# Altium integrated library Lattice FPGA XP2.IntLib: 160 symbols (part 23 of 35)
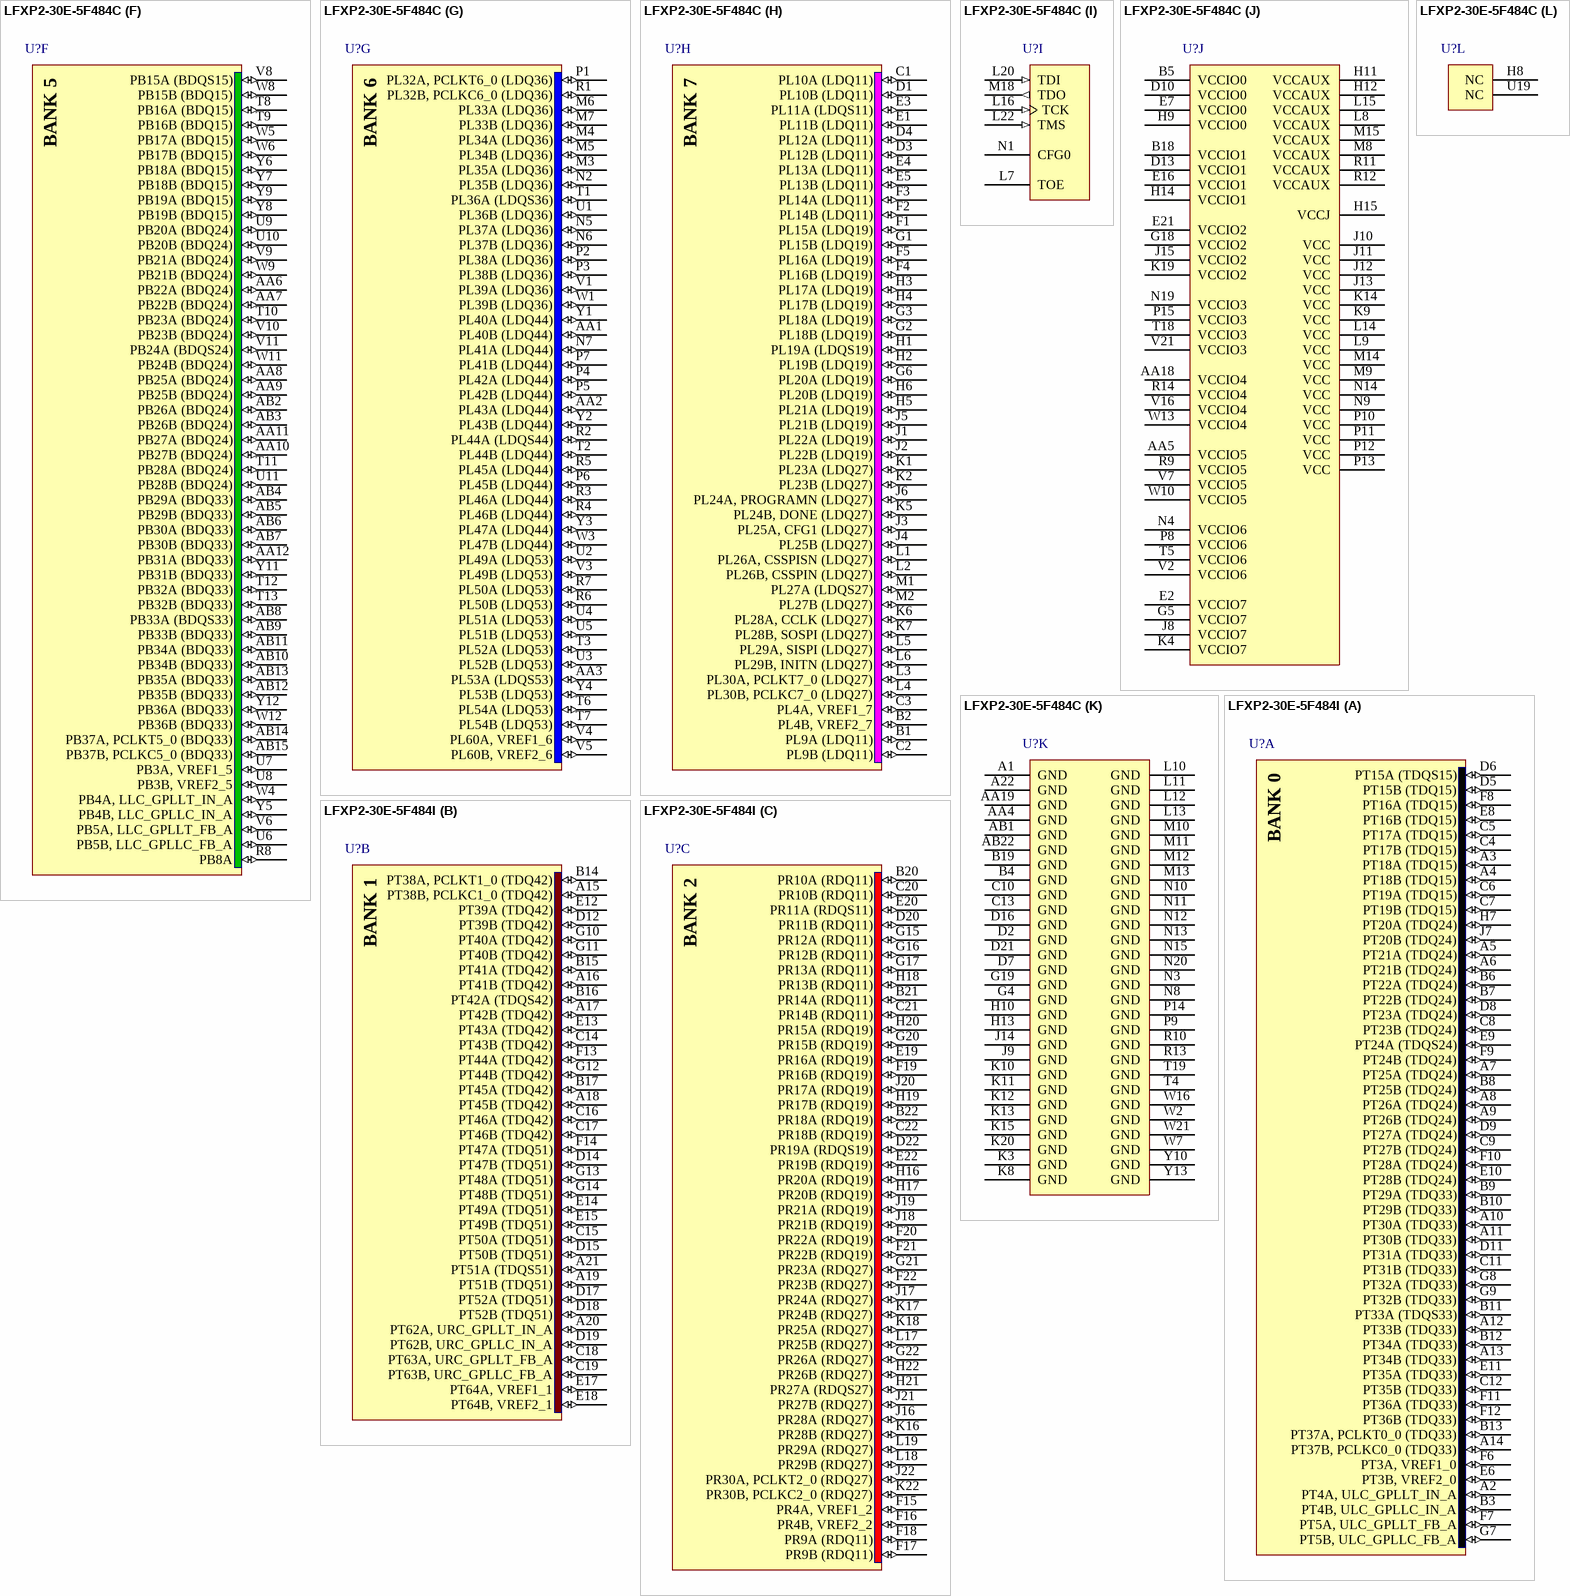
[diagram p284: symbols LFXP2-30E-5F484C to LFXP2-30E-5F484I]

## LFXP2-30E-5F484C
designator U?
XP2, 1.2V FPGA, 363 I/Os, 29K LUTs, 484-Pin fpBGA, Speed Grade 5, Commercial Grade; DatasheetVersion: ver01.8, Jun-2008; PackageVersion: ver02.8, Jul-2011; PackageReference: fpBGA484; PackageDescription: 484-Ball Fine Pitch Ball Grid Array (fpBGA484); Code_IPC: BGA100P22X22-484; ComponentLink1Description: Manufacturer URL; ComponentLink1URL: http://www.latticesemi.com/; ComponentLink2Description: Datasheet; ComponentLink2URL: http://www.latticesemi.com/documents/DS1009.pdf; ComponentLink3Description: Package Specification; ComponentLink3URL: http://www.latticesemi.com/lit/docs/package/pkg.pdf
footprint fpBGA484 (BGA, 484-Leads, Body 23x23mm, Pitch 1mm)
part A pins: A2 PT4A, ULC_GPLLT_IN_A (io), A3 PT18A (TDQ15) (io), A4 PT18B (TDQ15) (io), A5 PT21A (TDQ24) (io), A6 PT21B (TDQ24) (io), A7 PT25A (TDQ24) (io), A8 PT26A (TDQ24) (io), A9 PT26B (TDQ24) (io), A10 PT30A (TDQ33) (io), A11 PT30B (TDQ33) (io), A12 PT33B (TDQ33) (io), A13 PT34B (TDQ33) (io), A14 PT37B, PCLKC0_0 (TDQ33) (io), B3 PT4B, ULC_GPLLC_IN_A (io), B6 PT22A (TDQ24) (io), B7 PT22B (TDQ24) (io), B8 PT25B (TDQ24) (io), B9 PT29A (TDQ33) (io), B10 PT29B (TDQ33) (io), B11 PT33A (TDQS33) (io), B12 PT34A (TDQ33) (io), B13 PT37A, PCLKT0_0 (TDQ33) (io), C4 PT17B (TDQ15) (io), C5 PT17A (TDQ15) (io), C6 PT19A (TDQ15) (io), C7 PT19B (TDQ15) (io), C8 PT23B (TDQ24) (io), C9 PT27B (TDQ24) (io), C11 PT31B (TDQ33) (io), C12 PT35B (TDQ33) (io), D5 PT15B (TDQ15) (io), D6 PT15A (TDQS15) (io), D8 PT23A (TDQ24) (io), D9 PT27A (TDQ24) (io), D11 PT31A (TDQ33) (io), E6 PT3B, VREF2_0 (io), E8 PT16B (TDQ15) (io), E9 PT24A (TDQS24) (io), E10 PT28B (TDQ24) (io), E11 PT35A (TDQ33) (io), F6 PT3A, VREF1_0 (io), F7 PT5A, ULC_GPLLT_FB_A (io), F8 PT16A (TDQ15) (io), F9 PT24B (TDQ24) (io), F10 PT28A (TDQ24) (io), F11 PT36A (TDQ33) (io), F12 PT36B (TDQ33) (io), G7 PT5B, ULC_GPLLC_FB_A (io), G8 PT32A (TDQ33) (io), G9 PT32B (TDQ33) (io), H7 PT20A (TDQ24) (io), J7 PT20B (TDQ24) (io)
part B pins: A15 PT38B, PCLKC1_0 (TDQ42) (io), A16 PT41B (TDQ42) (io), A17 PT42B (TDQ42) (io), A18 PT45B (TDQ42) (io), A19 PT51B (TDQ51) (io), A20 PT62A, URC_GPLLT_IN_A (io), A21 PT51A (TDQS51) (io), B14 PT38A, PCLKT1_0 (TDQ42) (io), B15 PT41A (TDQ42) (io), B16 PT42A (TDQS42) (io), B17 PT45A (TDQ42) (io), C14 PT43B (TDQ42) (io), C15 PT50A (TDQ51) (io), C16 PT46A (TDQ42) (io), C17 PT46B (TDQ42) (io), C18 PT63A, URC_GPLLT_FB_A (io), C19 PT63B, URC_GPLLC_FB_A (io), D12 PT39B (TDQ42) (io), D14 PT47B (TDQ51) (io), D15 PT50B (TDQ51) (io), D17 PT52A (TDQ51) (io), D18 PT52B (TDQ51) (io), D19 PT62B, URC_GPLLC_IN_A (io), E12 PT39A (TDQ42) (io), E13 PT43A (TDQ42) (io), E14 PT49A (TDQ51) (io), E15 PT49B (TDQ51) (io), E17 PT64A, VREF1_1 (io), E18 PT64B, VREF2_1 (io), F13 PT44A (TDQ42) (io), F14 PT47A (TDQ51) (io), G10 PT40A (TDQ42) (io), G11 PT40B (TDQ42) (io), G12 PT44B (TDQ42) (io), G13 PT48A (TDQ51) (io), G14 PT48B (TDQ51) (io)
part C pins: B20 PR10A (RDQ11) (io), B21 PR14A (RDQ11) (io), B22 PR18A (RDQ19) (io), C20 PR10B (RDQ11) (io), C21 PR14B (RDQ11) (io), C22 PR18B (RDQ19) (io), D20 PR11B (RDQ11) (io), D22 PR19A (RDQS19) (io), E19 PR16A (RDQ19) (io), E20 PR11A (RDQS11) (io), E22 PR19B (RDQ19) (io), F15 PR4A, VREF1_2 (io), F16 PR4B, VREF2_2 (io), F17 PR9B (RDQ11) (io), F18 PR9A (RDQ11) (io), F19 PR16B (RDQ19) (io), F20 PR22A (RDQ19) (io), F21 PR22B (RDQ19) (io), F22 PR23B (RDQ27) (io), G15 PR12A (RDQ11) (io), G16 PR12B (RDQ11) (io), G17 PR13A (RDQ11) (io), G20 PR15B (RDQ19) (io), G21 PR23A (RDQ27) (io), G22 PR26A (RDQ27) (io), H16 PR20A (RDQ19) (io), H17 PR20B (RDQ19) (io), H18 PR13B (RDQ11) (io), H19 PR17B (RDQ19) (io), H20 PR15A (RDQ19) (io), H21 PR27A (RDQS27) (io), H22 PR26B (RDQ27) (io), J16 PR28A (RDQ27) (io), J17 PR24A (RDQ27) (io), J18 PR21B (RDQ19) (io), J19 PR21A (RDQ19) (io), J20 PR17A (RDQ19) (io), J21 PR27B (RDQ27) (io), J22 PR30A, PCLKT2_0 (RDQ27) (io), K16 PR28B (RDQ27) (io), K17 PR24B (RDQ27) (io), K18 PR25A (RDQ27) (io), K22 PR30B, PCLKC2_0 (RDQ27) (io), L17 PR25B (RDQ27) (io), L18 PR29B (RDQ27) (io), L19 PR29A (RDQ27) (io)
part D pins: K21 PR32A, PCLKT3_0 (RDQ36) (io), L21 PR32B, PCLKC3_0 (RDQ36) (io), M16 PR34B (RDQ36) (io), M17 PR34A (RDQ36) (io), M19 PR33A (RDQ36) (io), M20 PR33B (RDQ36) (io), M21 PR35A (RDQ36) (io), M22 PR36A (RDQS36) (io), N16 PR41B (RDQ44) (io), N17 PR41A (RDQ44) (io), N18 PR37B (RDQ36) (io), N21 PR35B (RDQ36) (io), N22 PR36B (RDQ36) (io), P16 PR45A (RDQ44) (io), P17 PR45B (RDQ44) (io), P18 PR37A (RDQ36) (io), P19 PR42A (RDQ44) (io), P20 PR38B (RDQ36) (io), P21 PR38A (RDQ36) (io), P22 PR39A (RDQ36) (io), R16 PR50A (RDQ53) (io), R17 PR46B (RDQ44) (io), R18 PR46A (RDQ44) (io), R19 PR42B (RDQ44) (io), R20 PR40B (RDQ44) (io), R21 PR40A (RDQ44) (io), R22 PR39B (RDQ36) (io), T17 PR50B (RDQ53) (io), T20 PR43B (RDQ44) (io), T21 PR43A (RDQ44) (io), T22 PR44A (RDQS44) (io), U17 PR54A (RDQ53) (io), U18 PR54B (RDQ53) (io), U20 PR49A (RDQ53) (io), U21 PR47A (RDQ44) (io), U22 PR44B (RDQ44) (io), V17 PR60A, VREF1_3 (io), V18 PR60B, VREF2_3 (io), V19 PR53B (RDQ53) (io), V20 PR49B (RDQ53) (io), V22 PR47B (RDQ44) (io), W19 PR53A (RDQS53) (io), W20 PR52B (RDQ53) (io), W22 PR52A (RDQ53) (io), Y19 PR51B (RDQ53) (io), Y20 PR51A (RDQ53) (io)
part E pins: AA13 PB39B (BDQ42) (io), AA14 PB42A (BDQS42) (io), AA15 PB42B (BDQ42) (io), AA16 PB45A (BDQ42) (io), AA17 PB45B (BDQ42) (io), AA20 PB46B (BDQ42) (io), AA21 PB49B (BDQ51) (io), AA22 PB49A (BDQ51) (io), AB16 PB38A, PCLKT4_0 (BDQ42) (io), AB17 PB38B, PCLKC4_0 (BDQ42) (io), AB18 PB41A (BDQ42) (io), AB19 PB41B (BDQ42) (io), AB20 PB46A (BDQ42) (io), AB21 PB59B (io), R15 PB59A (io), T14 PB43A (BDQ42) (io), T15 PB43B (BDQ42) (io), T16 PB52A (BDQ51) (io), U12 PB40B (BDQ42) (io), U13 PB44B (BDQ42) (io), U14 PB48A (BDQ51) (io), U15 PB48B (BDQ51) (io), U16 PB52B (BDQ51) (io), V12 PB40A (BDQ42) (io), V13 PB44A (BDQ42) (io), V14 PB47B (BDQ51) (io), V15 PB51B (BDQ51) (io), W14 PB47A (BDQ51) (io), W15 PB51A (BDQS51) (io), W17 PB64A, VREF1_4 (io), W18 PB64B, VREF2_4 (io), Y14 PB39A (BDQ42) (io), Y15 PB62B, LRC_GPLLC_IN_A (io), Y16 PB62A, LRC_GPLLT_IN_A (io), Y17 PB63A, LRC_GPLLT_FB_A (io), Y18 PB63B, LRC_GPLLC_FB_A (io), Y21 PB50B (BDQ51) (io), Y22 PB50A (BDQ51) (io)
part F pins: AA6 PB22A (BDQ24) (io), AA7 PB22B (BDQ24) (io), AA8 PB25A (BDQ24) (io), AA9 PB25B (BDQ24) (io), AA10 PB27B (BDQ24) (io), AA11 PB27A (BDQ24) (io), AA12 PB31A (BDQ33) (io), AB2 PB26A (BDQ24) (io), AB3 PB26B (BDQ24) (io), AB4 PB29A (BDQ33) (io), AB5 PB29B (BDQ33) (io), AB6 PB30A (BDQ33) (io), AB7 PB30B (BDQ33) (io), AB8 PB33A (BDQS33) (io), AB9 PB33B (BDQ33) (io), AB10 PB34B (BDQ33) (io), AB11 PB34A (BDQ33) (io), AB12 PB35B (BDQ33) (io), AB13 PB35A (BDQ33) (io), AB14 PB37A, PCLKT5_0 (BDQ33) (io), AB15 PB37B, PCLKC5_0 (BDQ33) (io), R8 PB8A (io), T8 PB16A (BDQ15) (io), T9 PB16B (BDQ15) (io), T10 PB23A (BDQ24) (io), T11 PB28A (BDQ24) (io), T12 PB32A (BDQ33) (io), T13 PB32B (BDQ33) (io), U6 PB5B, LLC_GPLLC_FB_A (io), U7 PB3A, VREF1_5 (io), U8 PB3B, VREF2_5 (io), U9 PB20A (BDQ24) (io), U10 PB20B (BDQ24) (io), U11 PB28B (BDQ24) (io), V6 PB5A, LLC_GPLLT_FB_A (io), V8 PB15A (BDQS15) (io), V9 PB21A (BDQ24) (io), V10 PB23B (BDQ24) (io), V11 PB24A (BDQS24) (io), W4 PB4A, LLC_GPLLT_IN_A (io), W5 PB17A (BDQ15) (io), W6 PB17B (BDQ15) (io), W8 PB15B (BDQ15) (io), W9 PB21B (BDQ24) (io), W11 PB24B (BDQ24) (io), W12 PB36B (BDQ33) (io), Y5 PB4B, LLC_GPLLC_IN_A (io), Y6 PB18A (BDQ15) (io), Y7 PB18B (BDQ15) (io), Y8 PB19B (BDQ15) (io), Y9 PB19A (BDQ15) (io), Y11 PB31B (BDQ33) (io), Y12 PB36A (BDQ33) (io)
part G pins: AA1 PL40B (LDQ44) (io), AA2 PL43A (LDQ44) (io), AA3 PL53A (LDQS53) (io), M3 PL35A (LDQ36) (io), M4 PL34A (LDQ36) (io), M5 PL34B (LDQ36) (io), M6 PL33A (LDQ36) (io), M7 PL33B (LDQ36) (io), N2 PL35B (LDQ36) (io), N5 PL37A (LDQ36) (io), N6 PL37B (LDQ36) (io), N7 PL41A (LDQ44) (io), P1 PL32A, PCLKT6_0 (LDQ36) (io), P2 PL38A (LDQ36) (io), P3 PL38B (LDQ36) (io), P4 PL42A (LDQ44) (io), P5 PL42B (LDQ44) (io), P6 PL45B (LDQ44) (io), P7 PL41B (LDQ44) (io), R1 PL32B, PCLKC6_0 (LDQ36) (io), R2 PL44A (LDQS44) (io), R3 PL46A (LDQ44) (io), R4 PL46B (LDQ44) (io), R5 PL45A (LDQ44) (io), R6 PL50B (LDQ53) (io), R7 PL50A (LDQ53) (io), T1 PL36A (LDQS36) (io), T2 PL44B (LDQ44) (io), T3 PL52A (LDQ53) (io), T6 PL54A (LDQ53) (io), T7 PL54B (LDQ53) (io), U1 PL36B (LDQ36) (io), U2 PL49A (LDQ53) (io), U3 PL52B (LDQ53) (io), U4 PL51A (LDQ53) (io), U5 PL51B (LDQ53) (io), V1 PL39A (LDQ36) (io), V3 PL49B (LDQ53) (io), V4 PL60A, VREF1_6 (io), V5 PL60B, VREF2_6 (io), W1 PL39B (LDQ36) (io), W3 PL47B (LDQ44) (io), Y1 PL40A (LDQ44) (io), Y2 PL43B (LDQ44) (io), Y3 PL47A (LDQ44) (io), Y4 PL53B (LDQ53) (io)
part H pins: B1 PL9A (LDQ11) (io), B2 PL4B, VREF2_7 (io), C1 PL10A (LDQ11) (io), C2 PL9B (LDQ11) (io), C3 PL4A, VREF1_7 (io), D1 PL10B (LDQ11) (io), D3 PL12B (LDQ11) (io), D4 PL12A (LDQ11) (io), E1 PL11B (LDQ11) (io), E3 PL11A (LDQS11) (io), E4 PL13A (LDQ11) (io), E5 PL13B (LDQ11) (io), F1 PL15A (LDQ19) (io), F2 PL14B (LDQ11) (io), F3 PL14A (LDQ11) (io), F4 PL16B (LDQ19) (io), F5 PL16A (LDQ19) (io), G1 PL15B (LDQ19) (io), G2 PL18B (LDQ19) (io), G3 PL18A (LDQ19) (io), G6 PL20A (LDQ19) (io), H1 PL19A (LDQS19) (io), H2 PL19B (LDQ19) (io), H3 PL17A (LDQ19) (io), H4 PL17B (LDQ19) (io), H5 PL21A (LDQ19) (io), H6 PL20B (LDQ19) (io), J1 PL22A (LDQ19) (io), J2 PL22B (LDQ19) (io), J3 PL25A, CFG1 (LDQ27) (io), J4 PL25B (LDQ27) (io), J5 PL21B (LDQ19) (io), J6 PL24A, PROGRAMN (LDQ27) (io), K1 PL23A (LDQ27) (io), K2 PL23B (LDQ27) (io), K5 PL24B, DONE (LDQ27) (io), K6 PL28A, CCLK (LDQ27) (io), K7 PL28B, SOSPI (LDQ27) (io), L1 PL26A, CSSPISN (LDQ27) (io), L2 PL26B, CSSPIN (LDQ27) (io), L3 PL30A, PCLKT7_0 (LDQ27) (io), L4 PL30B, PCLKC7_0 (LDQ27) (io), L5 PL29A, SISPI (LDQ27) (io), L6 PL29B, INITN (LDQ27) (io), M1 PL27A (LDQS27) (io), M2 PL27B (LDQ27) (io)
part I pins: L7 TOE, L16 TCK (in), L20 TDI (in), L22 TMS (in), M18 TDO (out), N1 CFG0
part J pins: AA5 VCCIO5 (power), AA18 VCCIO4 (power), B5 VCCIO0 (power), B18 VCCIO1 (power), D10 VCCIO0 (power), D13 VCCIO1 (power), E2 VCCIO7 (power), E7 VCCIO0 (power), E16 VCCIO1 (power), E21 VCCIO2 (power), G5 VCCIO7 (power), G18 VCCIO2 (power), H9 VCCIO0 (power), H11 VCCAUX (power), H12 VCCAUX (power), H14 VCCIO1 (power), H15 VCCJ (power), J8 VCCIO7 (power), J10 VCC (power), J11 VCC (power), J12 VCC (power), J13 VCC (power), J15 VCCIO2 (power), K4 VCCIO7 (power), K9 VCC (power), K14 VCC (power), K19 VCCIO2 (power), L8 VCCAUX (power), L9 VCC (power), L14 VCC (power), L15 VCCAUX (power), M8 VCCAUX (power), M9 VCC (power), M14 VCC (power), M15 VCCAUX (power), N4 VCCIO6 (power), N9 VCC (power), N14 VCC (power), N19 VCCIO3 (power), P8 VCCIO6 (power), P10 VCC (power), P11 VCC (power), P12 VCC (power), P13 VCC (power), P15 VCCIO3 (power), R9 VCCIO5 (power), R11 VCCAUX (power), R12 VCCAUX (power), R14 VCCIO4 (power), T5 VCCIO6 (power), T18 VCCIO3 (power), V2 VCCIO6 (power), V7 VCCIO5 (power), V16 VCCIO4 (power), V21 VCCIO3 (power), W10 VCCIO5 (power), W13 VCCIO4 (power)
part K pins: A1 GND (power), A22 GND (power), AA4 GND (power), AA19 GND (power), AB1 GND (power), AB22 GND (power), B4 GND (power), B19 GND (power), C10 GND (power), C13 GND (power), D2 GND (power), D7 GND (power), D16 GND (power), D21 GND (power), G4 GND (power), G19 GND (power), H10 GND (power), H13 GND (power), J9 GND (power), J14 GND (power), K3 GND (power), K8 GND (power), K10 GND (power), K11 GND (power), K12 GND (power), K13 GND (power), K15 GND (power), K20 GND (power), L10 GND (power), L11 GND (power), L12 GND (power), L13 GND (power), M10 GND (power), M11 GND (power), M12 GND (power), M13 GND (power), N3 GND (power), N8 GND (power), N10 GND (power), N11 GND (power), N12 GND (power), N13 GND (power), N15 GND (power), N20 GND (power), P9 GND (power), P14 GND (power), R10 GND (power), R13 GND (power), T4 GND (power), T19 GND (power), W2 GND (power), W7 GND (power), W16 GND (power), W21 GND (power), Y10 GND (power), Y13 GND (power)
part L pins: H8 NC, U19 NC
part A text: BANK 0
part B text: BANK 1
part C text: BANK 2
part D text: BANK 3
part E text: BANK 4
part F text: BANK 5
part G text: BANK 6
part H text: BANK 7

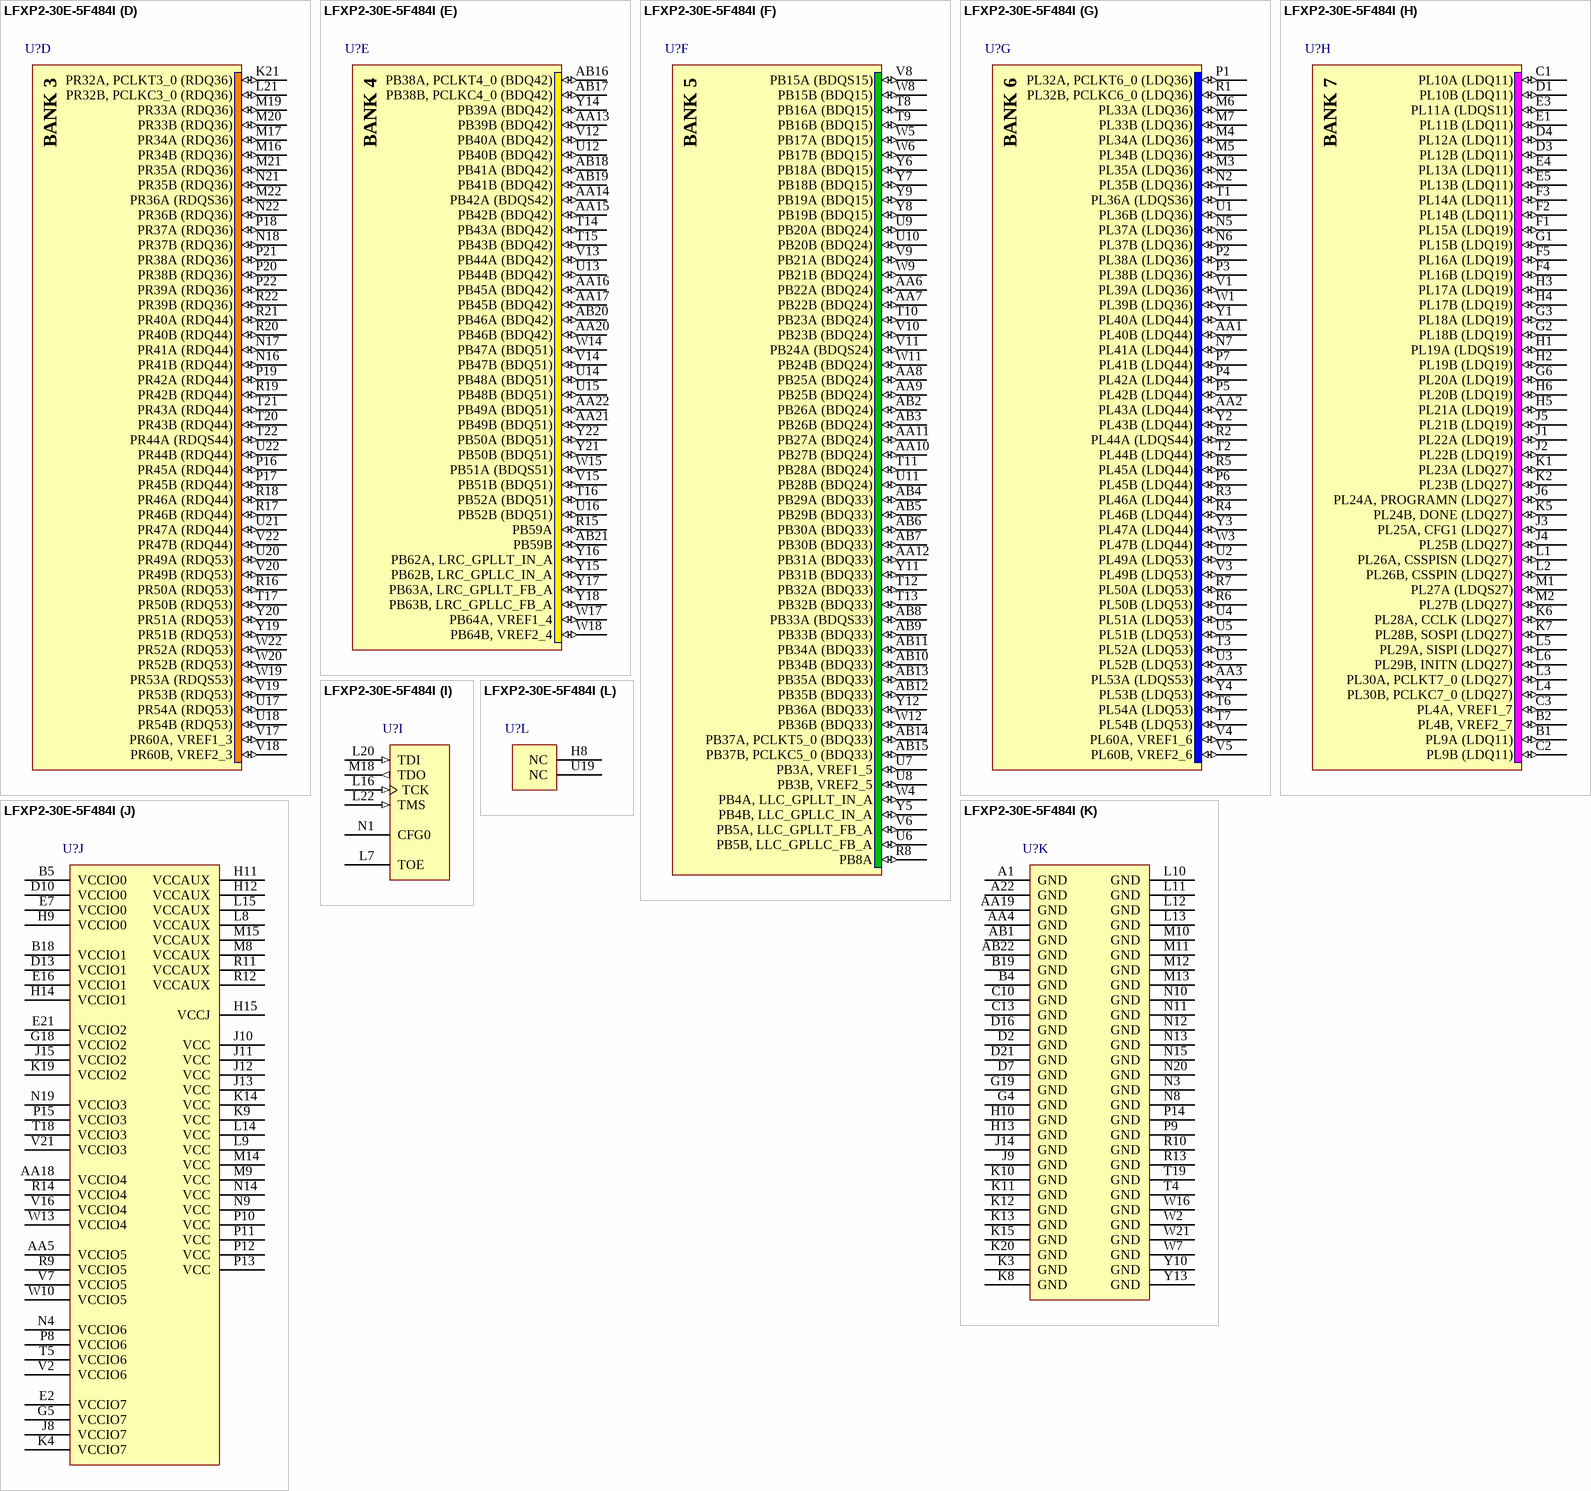
[diagram p94: symbol LFXP2-30E-5F484I]